# Altium footprint library PCB1.PcbLib: 8 footprints
Each footprint in its own frame and in the unit in brackets; x right, y up, seen from the top. Pads: shape width x height; smd on the part's side, far side on the other; paste and mask are expansions set on the pad; w line width, h text height; cw(c..) or ccw(c..) is an arc to the next point about the centre after c.
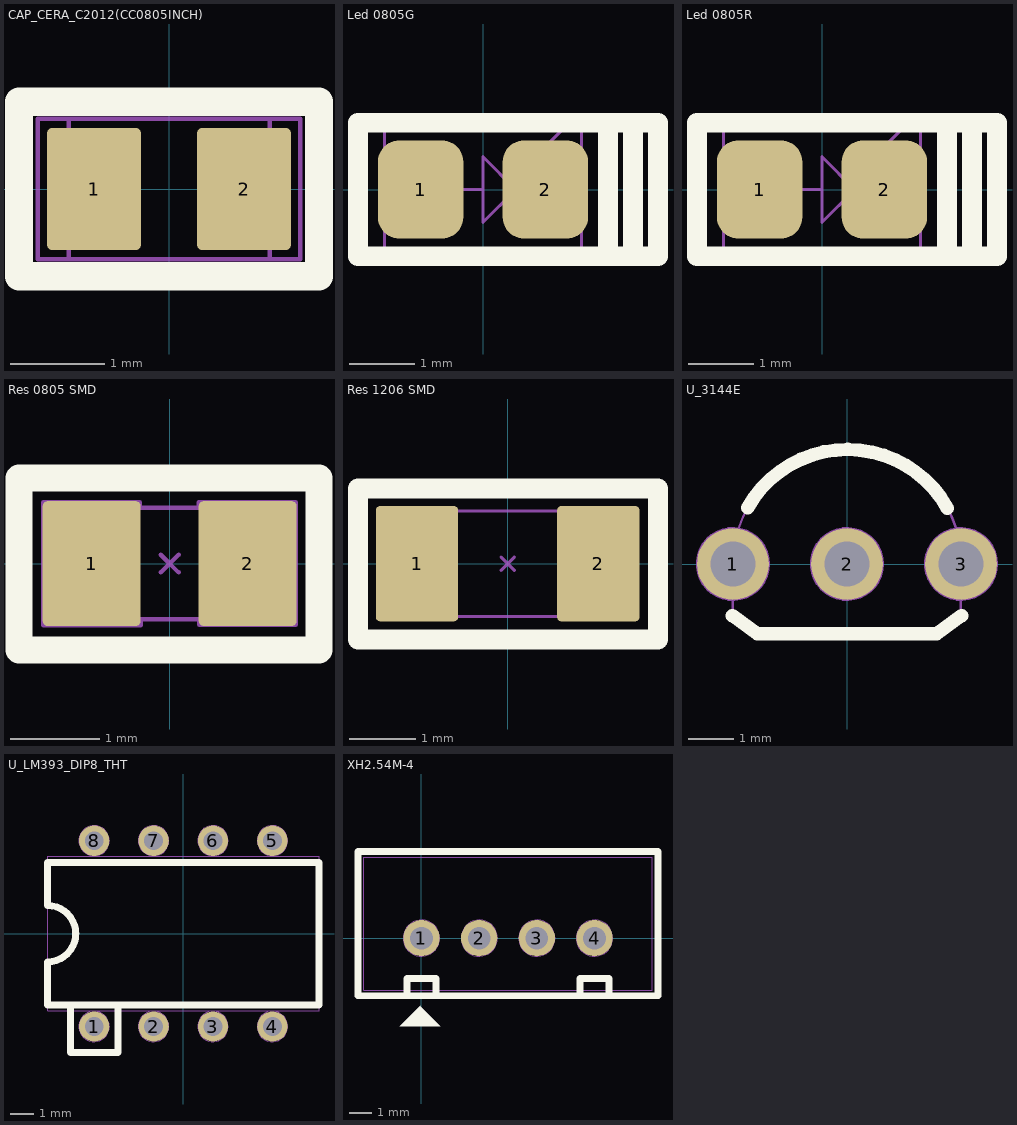
[diagram p0: the footprints below, top view; thin cyan lines are the x and y axes]

## CAP_CERA_C2012(CC0805INCH) [mm]
pads (2):
  rrect10% 1x1.3 smd: 1(-0.8,0) 2(0.8,0)
Top Overlay:
  lines w0.3: -1.6,-0.93 1.6,-0.93 1.6,0.93 -1.6,0.93 -1.6,-0.93
Mechanical 2:
  lines w0.05: -1.07,-0.74 -1.07,0.75 ; 1.075,-0.74 1.075,0.75 ; -1.4,-0.75 1.4,-0.75 1.4,0.75 -1.4,0.75 -1.4,-0.75
  text ".Designator" at 0.1,0.433 h1
3D body "User Library-cap_0805_lowprofile.step": height 0.95, standoff 0, extent -1,-0.6 1,0.6

## Led 0805G [mm]
pads (2):
  rrect50% 1.3x1.5 smd: 1(-0.95,0) 2(0.95,0)
Top Overlay:
  lines w0.3: 1.905,-1.016 1.905,1.016 ; 2.286,-1.016 2.286,1.016 ; -1.905,-1.016 -1.905,1.016 2.667,1.016 2.667,-1.016 -1.905,-1.016
Mechanical 2:
  lines w0.05: -1.5,-1 -1.5,1.032 ; -0.5,0 0,0 ; 0.5,-0.5 0.5,0.5 ; 0.6,0.5 0.8,0.7 0.8,0.5 1.2,0.9 ; 0.75,0.2 0.95,0.4 0.95,0.2 1.35,0.6 ; 1,0 0.5,0 ; 1.5,-1 1.5,1.032 ; 0.5,0 0,-0.5 0,0.5 0.5,0 ; -1.905,-1 -1.905,1.032 1.905,1.032 1.905,-1 -1.905,-1
  text ".Designator" at 0.1,0.433 h1
3D body "User Library-User Library-led_0805 GRE.step": height 1.1, standoff 0, extent -1.035,-0.625 0.985,0.625

## Led 0805R [mm]
pads (2):
  rrect50% 1.3x1.5 smd: 1(-0.95,0) 2(0.95,0)
Top Overlay:
  lines w0.3: 1.905,-1.016 1.905,1.016 ; 2.286,-1.016 2.286,1.016 ; -1.905,-1.016 -1.905,1.016 2.667,1.016 2.667,-1.016 -1.905,-1.016
Mechanical 2:
  lines w0.05: -1.5,-1 -1.5,1.032 ; -0.5,0 0,0 ; 0.5,-0.5 0.5,0.5 ; 0.6,0.5 0.8,0.7 0.8,0.5 1.2,0.9 ; 0.75,0.2 0.95,0.4 0.95,0.2 1.35,0.6 ; 1,0 0.5,0 ; 1.5,-1 1.5,1.032 ; 0.5,0 0,-0.5 0,0.5 0.5,0 ; -1.905,-1 1.905,-1 1.905,1.032 -1.905,1.032 -1.905,-1
  text ".Designator" at 0.1,0.433 h1
3D body "User Library-User Library-led_0805 R.step": height 1.1, standoff 0, extent -1.01,-0.625 1.01,0.625

## Res 0805 SMD [mm]
pads (2):
  rrect10% 1.1x1.4 smd mask+0.1: 1(-0.875,0) 2(0.875,0)
Top Overlay:
  lines w0.3: -1.69,-0.97 -1.69,0.96 1.675,0.96 1.675,-0.97 -1.69,-0.97
Mechanical 2:
  lines w0.05: -0.331,0.642 -0.334,0.642 -0.334,0.687 -1.416,0.687 -1.416,-0.69 -1.413,-0.69 -0.327,-0.69 ; -0.325,-0.69 -0.325,-0.632 ; 0.324,0.632 0.324,0.69 ; 0.327,0.69 1.413,0.69 ; 0.334,-0.642 0.334,-0.687 1.416,-0.687 1.416,0.69 ; -1,-0.625 1,-0.625 1,0.625 -1,0.625 -1,-0.625
  text ".Designator" at 0.1,0.433 h1
Mechanical 15:
  lines w0.05: -0.1,-0.1 0.1,0.1 ; -0.1,0.1 0.1,-0.1 ; -1,-0.625 1,-0.625 1,0.625 -1,0.625 -1,-0.625
3D body "User Library-SMD RESISTOR-10805.STEP": height 0.62, standoff 0.02, extent -1,-0.625 1,0.625

## Res 1206 SMD [mm]
pads (2):
  rrect10% 1.25x1.75 smd mask+0.1: 1(-1.375,0) 2(1.375,0)
Top Overlay:
  lines w0.3: -2.27,-1.15 2.28,-1.15 2.28,1.14 -2.27,1.14 -2.27,-1.15
Mechanical 2:
  lines w0.05: -0.1,-0.1 0.1,0.1 ; -0.1,0.1 0.1,-0.1 ; -1.6,-0.8 -1.6,0.8 1.6,0.8 1.6,-0.8 -1.6,-0.8
  text ".Designator" at 0.074,0.409 h1
3D body "User Library-SMD RESISTOR-11206.STEP": height 0.65, standoff 0.05, extent -1.6,-0.8 1.6,0.8

## U_3144E [mm]
pads (3):
  round 1.6 hole 1 mask+0.1: 1(-2.54,0) 2(0,0) 3(2.54,0)
Top Overlay:
  lines w0.3: -2.55,-1.15 -2,-1.55 2,-1.55 2.55,-1.15 ; -2.21,1.255 cw(c0.01,0) 2.237,1.243
Mechanical 2:
  circle w0.05: c-2.54,0 r0.8
  circle w0.05: c0,0 r0.8
  circle w0.05: c2.54,0 r0.8
  lines w0.05: -3.175,0 -1.905,0 ; -2.546,-0.8 -2.546,-1.15 -2,-1.55 2,-1.55 2.534,-1.15 2.534,-0.8 ; -2.54,-0.635 -2.54,0.635 ; -2.415,0.79 cw(c0.01,0) 2.434,0.793 ; -0.635,0 0.635,0
  text ".Designator" at 0.11,0.433 h1
  text "3" at 2.35,-0.4 h0.75
3D body "transistor.stp": height 8.6, standoff -11.1, extent -2.788,-1.55 2.788,2.55

## U_LM393_DIP8_THT [mm]
pads (8):
  round 1.3 hole 0.8 mask+0.1: 1(-3.81,-3.97) 2(-1.27,-3.97) 3(1.27,-3.97) 4(3.81,-3.97) 5(3.81,3.97) 6(1.27,3.97) 7(-1.27,3.97) 8(-3.81,3.97)
Top Overlay:
  lines w0.3: -4.826,-3.048 -4.826,-5.08 -2.794,-5.08 -2.794,-3.048 ; -5.8,-3.048 -5.8,-1.204 ccw(c-5.8,0) -5.8,1.204 -5.8,3.048 5.8,3.048 5.8,-3.048 -5.8,-3.048
Mechanical 2:
  circle w0.05: c3.81,-3.97 r0.65
  circle w0.05: c1.27,-3.97 r0.65
  circle w0.05: c-1.27,-3.97 r0.65
  circle w0.05: c-3.81,-3.97 r0.65
  circle w0.05: c3.81,3.97 r0.65
  circle w0.05: c1.27,3.97 r0.65
  circle w0.05: c-1.27,3.97 r0.65
  circle w0.05: c-3.81,3.97 r0.65
  lines w0.05: -5.8,-1.221 ccw(c-5.8,0) -5.8,1.221 ; -4.826,-3.302 -4.826,-5.08 -2.794,-5.08 -2.794,-3.302 ; -5.8,-3.3 -5.8,3.3 5.8,3.3 5.8,-3.3 -5.8,-3.3
  text ".Designator" at 0.1,0.433 h1
  text "8" at -4.05,2.15 h0.75
  text "5" at 3.55,2.15 h0.75
  text "4" at 3.55,-2.85 h0.75
  text "1" at -3.925,-2.85 h0.75
3D body "LM393P.STEP": height 5.08, standoff -3.18, extent -4.795,-4.095 4.795,4.095

## XH2.54M-4 [mm]
pads (4):
  round 1.6 hole 1: 1(0,0) 2(2.54,0) 3(5.08,0) 4(7.62,0)
Top Overlay:
  region: -0.965,-3.886 0.838,-3.886 -0.051,-2.997 -0.051,-2.972
  lines w0.3: -0.635,-2.54 -0.635,-1.778 0.635,-1.778 0.635,-2.54 ; 6.985,-2.54 6.985,-1.778 8.255,-1.778 8.255,-2.54 ; -2.794,-2.54 10.414,-2.54 10.414,3.81 -2.794,3.81 -2.794,-2.54
Mechanical 2:
  circle w0.05: c0,0 r0.8
  circle w0.05: c2.54,0 r0.8
  circle w0.05: c5.08,0 r0.8
  circle w0.05: c7.62,0 r0.8
  lines w0.05: -2.54,-2.286 -2.54,3.556 10.16,3.556 10.16,-2.286 -2.54,-2.286
  text ".Designator" at 0.1,0.433 h1
  text "4" at 7.289,-0.331 h0.75
  text "1" at -0.115,-0.31 h0.75
3D body "XH2.54M-4.STEP": height 6.91, standoff -1.82, extent -2.48,-2.26 10.1,3.48